# Altium schematic symbol library RC.SchLib: 20 symbols
Pins are listed as number, name and electrical type; pins without a type are passive.

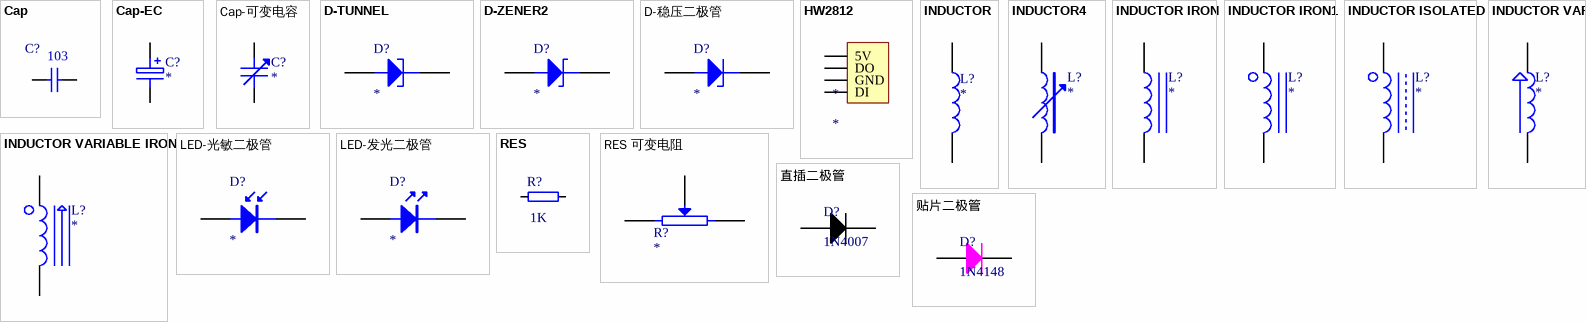
[diagram p0: symbols Cap to 贴片二极管]

## Cap
designator C?  value 103
footprint C0805
footprint C-聚酯薄膜电容
footprint C0603
pins: 1, 2

## Cap-EC
designator C?
footprint C25V/4.7U
footprint C4X4
footprint C18X35
footprint C35V/1000UF
footprint C25V/220U
footprint CE2,5-6,5 (6.5mm(Dia.) x 11.5mm(Length) 2.5mm(Lead Spacing))
footprint C6*7 (贴片电解电容)
pins: 1, 2 E

## Cap-可变电容
designator C?
Variable Capacitor
pins: 1, 2

## D-TUNNEL
designator D?
Tunnel FDiode
pins: 1 A, 2 K

## D-ZENER2
designator D?
Zener Diode
pins: 1 A, 2 K

## D-稳压二极管
designator D?
Zener Diode
pins: 1 A, 2 K

## HW2812
designator *
footprint 2812 (Footprint not found)
pins: 1 5V, 2 DO, 3 GND, 4 DI

## INDUCTOR
designator L?
footprint 电感12*12-SMD
footprint 贴片功率电感12-12
pins: 1, 2

## INDUCTOR4
designator L?
pins: 1, 2

## INDUCTOR IRON
designator L?
pins: 1, 2

## INDUCTOR IRON1
designator L?
pins: 1, 2

## INDUCTOR ISOLATED
designator L?
pins: 1, 2

## INDUCTOR VAR
designator L?
pins: 1, 2

## INDUCTOR VARIABLE IRON
designator L?
pins: 1, 2

## LED-光敏二极管
designator D?
Photosensitive Diode
pins: 1 A, 2 K

## LED-发光二极管
designator D?
footprint LED 5MM RED
footprint LED 5MM GRE
footprint LED 5MM WHI (LED)
footprint LED 3MM BLUE
footprint LED 3MM WHI
footprint LED 3MM RED
footprint LED 3MM GRE
footprint LED 0402 绿
footprint LED 0603 黄
footprint LED 0805 白
footprint LED-3.5
footprint LED-5MM-90
footprint LED-5050RGB
footprint LED_A3 (直径3MM二极管)
footprint LED 0805 红
footprint LED 0805 蓝
pins: 1, 2

## RES
designator R?  (value not drawn)
footprint R0805
footprint RES-1/4W
footprint R-2W (0.22R)
footprint R-5W
pins: 1, 2
text: 1K

## RES 可变电阻
designator R?
Potentiometer
footprint R-蓝白可调电位器
pins: 1, 2, 3 W

## 直插二极管
designator D?, comment 1N4007
footprint 1N400
footprint 1N400-H
footprint 1N4148
footprint 1N4148-H
footprint 大功率二极管
pins: 1 A, 2 K

## 贴片二极管
designator D?, comment 1N4148
footprint 1N4148贴片
footprint SMA
footprint SMC
pins: 1 A, 2 K